# EAGLE library part HX711-MODULE (library Open-Pull-Lib)
SparkFun Load Cell Apmplifier - HX711 https://www.sparkfun.com/products/13879
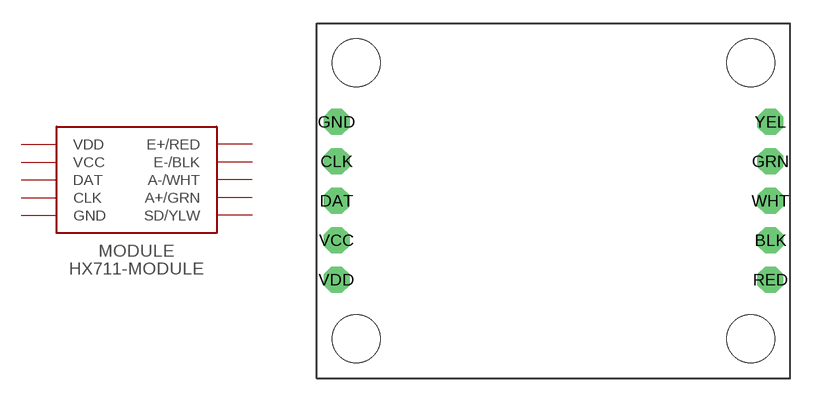
[diagram p2: symbol with the pads of SPARKFUN-HX711; footprint SPARKFUN-HX711]

Designator prefix MODULE

## HX711-MODULE  [SPARKFUN-HX711]
BLK  E-/BLK
CLK  CLK
DAT  DAT
GND  GND  sup
GRN  A+/GRN
RED  E+/RED
VCC  VCC  pwr
VDD  VDD  pwr
WHT  A-/WHT
YEL  SD/YLW

## Footprint SPARKFUN-HX711 (pad centres in mm)
drill 1.016 pad 1.676 octagon: BLK 29.21,8.89; CLK 1.27,13.97; DAT 1.27,11.43; GND 1.27,16.51; GRN 29.21,13.97; RED 29.21,6.35; VCC 1.27,8.89; VDD 1.27,6.35; WHT 29.21,11.43; YEL 29.21,16.51
hole 3.1 at 2.54,20.32
hole 3.1 at 2.54,2.54
hole 3.1 at 27.94,2.54
hole 3.1 at 27.94,20.32